# EAGLE library part PY32F002BF15P6TU (library angelo-PY32F002BF15P6TU)
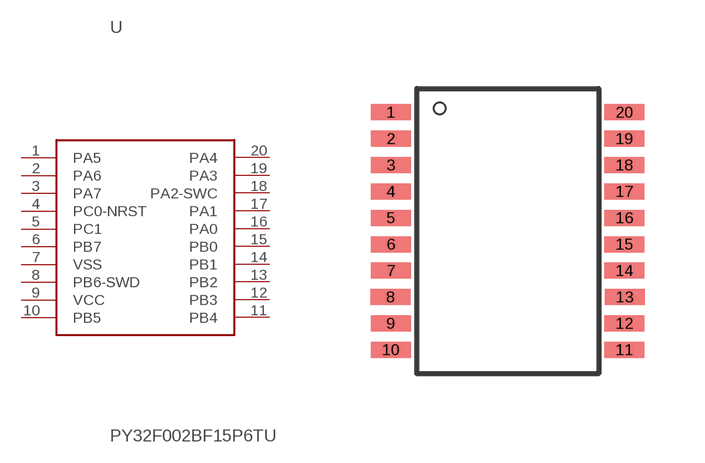
[diagram p0: symbol with the pads of TSSOP20; footprint TSSOP20]

Designator prefix -

## PY32F002BF15P6TU  [TSSOP20]
1  PA5
2  PA6
3  PA7
4  PC0-NRST
5  PC1
6  PB7
7  VSS
8  PB6-SWD
9  VCC
10  PB5
11  PB4
12  PB3
13  PB2
14  PB1
15  PB0
16  PA0
17  PA1
18  PA2-SWC
19  PA3
20  PA4

## Footprint TSSOP20 (pad centres in mm)
smd 1 x 0.4: 1 -2.937,2.693; 2 -2.937,2.032; 3 -2.937,1.372; 4 -2.937,0.712; 5 -2.937,0.051; 6 -2.937,-0.609; 7 -2.937,-1.27; 8 -2.943,-1.93; 9 -2.937,-2.59; 10 -2.937,-3.251; 11 2.905,-3.251; 12 2.905,-2.59; 13 2.911,-1.93; 14 2.905,-1.27; 15 2.905,-0.609; 16 2.905,0.051; 17 2.905,0.712; 18 2.905,1.372; 19 2.905,2.032; 20 2.905,2.693